# EAGLE library part DMARD07 (library logic-supply)
Domintech DMARD07 3-axis I2C acceleromter
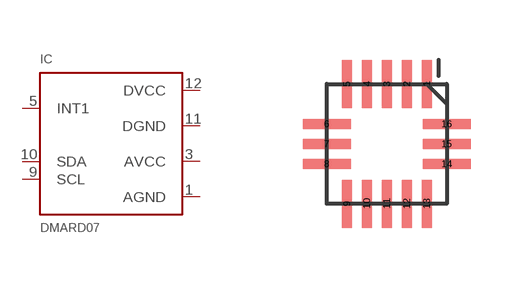
[diagram p36: symbol with the pads of LGA16-3X3; footprint LGA16-3X3]

Designator prefix IC

## DMARD07  [LGA16-3X3]
1  AGND
3  AVCC
5  INT1
9  SCL
10  SDA
11  DGND
12  DVCC

## Footprint LGA16-3X3 (pad centres in mm)
smd 0.25 x 1.2: 1 1,1.5; 2 0.5,1.5; 3 0,1.5; 4 -0.5,1.5; 5 -1,1.5; 9 -1,-1.5; 10 -0.5,-1.5; 11 0,-1.5; 12 0.5,-1.5; 13 1,-1.5
smd 1.2 x 0.25: 6 -1.5,0.5; 7 -1.5,0; 8 -1.5,-0.5; 14 1.5,-0.5; 15 1.5,0; 16 1.5,0.5